# Altium schematic symbol library 251-8086.SCHLIB: 1 symbol
Pins are listed as number, name and electrical type; pins without a type are passive.

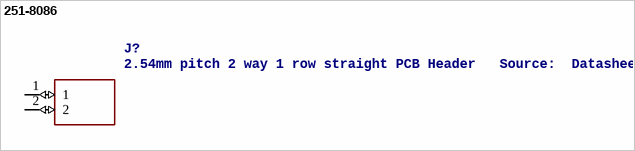
[diagram p0: symbol 251-8086]

## 251-8086
designator J?, comment 2.54mm pitch 2 way 1 row straight PCB Header   Source:  Datasheet
Manufacturer_Name: RS Components; Manufacturer_Part_Number: 251-8086; Description: 2.54mm pitch 2 way 1 row straight PCB Header; Height: 9.4mm
footprint 2518086
pins: 1 (io), 2 (io)